# Altium schematic symbol library Transistor GOST.SchLib: 15 symbols
Pins are listed as number, name and electrical type; pins without a type are passive.

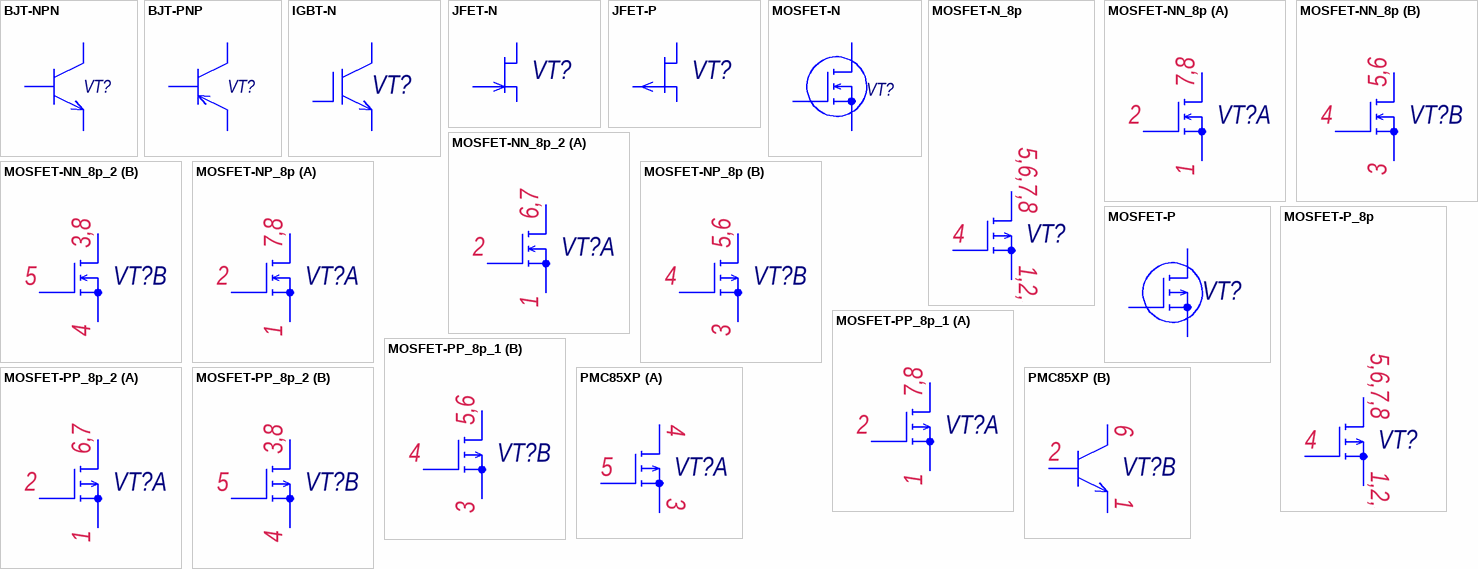
[diagram p0: symbols BJT-NPN to PMC85XP]

## BJT-NPN
designator VT?
Type: Транзистор; Published: 07.05.2013; Publisher: Andrew Danich
pins: 1 Б "База", 2 К "Коллектор", 3 Э "Эмиттер"

## BJT-PNP
designator VT?
Type: Транзистор; Published: 07.05.2013; Publisher: Andrew Danich
pins: 1 Б "База", 2 К "Коллектор", 3 Э "Эмиттер"

## IGBT-N
designator VT?
Type: Транзистор; Published: 27.07.2015; Publisher: Andrew Danich
pins: 1 G "Затвор", 2 C "Сток", 3 E "Исток"

## JFET-N
designator VT?
Type: Транзистор; Published: 24.09.2010; Publisher: Andrew Danich
pins: 1 З "Затвор", 2 С "Сток", 3 И "Исток"

## JFET-P
designator VT?
Type: Транзистор; Published: 10.02.2014; Publisher: Andrew Danich
pins: 1 З "Затвор", 2 С "Сток", 3 И "Исток"

## MOSFET-N
designator VT?
Type: Транзистор
pins: 1 G "Затвор", 2 D "Сток", 3 S "Исток"

## MOSFET-N_8p
designator VT?
Type: Сборка транзисторная; Published: 24.11.2016; Publisher: Andrew Danich
pins: 1 S "Исток", 2 G "Затвор", 3 D "Сток"
text: 5,6,7,8; 4; 1,2,3

## MOSFET-NN_8p
designator VT?
Type: Сборка транзисторная; Published: 17.07.2014; Publisher: Andrew Danich
part A pins: 1 S1 "Исток", 2 G1 "Затвор", 6 D1 "Сток"
part B pins: 3 S2 "Исток", 4 G2 "Затвор", 5 D2 "Сток"
part A text: 7,8
part B text: 5,6

## MOSFET-NN_8p_2
designator VT?
Type: Сборка транзисторная; Published: 27.07.2015; Publisher: Andrew Danich
part A pins: 1 S1 "Исток", 2 G1 "Затвор", 6 D1 "Сток"
part B pins: 3 D2 "Сток", 4 S2 "Исток", 5 G2 "Затвор"
part A text: 6,7
part B text: 3,8

## MOSFET-NP_8p
designator VT?
Type: Сборка транзисторная; Published: 17.07.2014; Publisher: Andrew Danich
part A pins: 1 S1 "Исток", 2 G1 "Затвор", 6 D1 "Сток"
part B pins: 3 S2 "Исток", 4 G2 "Затвор", 5 D2 "Сток"
part A text: 7,8
part B text: 5,6

## MOSFET-P
designator VT?
Type: Транзистор
pins: 1 G "Затвор", 2 D "Сток", 3 S "Исток"

## MOSFET-P_8p
designator VT?
Type: Сборка транзисторная; Published: 18.07.2014; Publisher: Andrew Danich
pins: 1 S "Исток", 2 G "Затвор", 3 D "Сток"
text: 5,6,7,8; 4; 1,2,3

## MOSFET-PP_8p_1
designator VT?
Type: Сборка транзисторная; Published: 18.07.2014; Publisher: Andrew Danich
part A pins: 1 S1 "Исток", 2 G1 "Затвор", 6 D1 "Сток"
part B pins: 3 S2 "Исток", 4 G2 "Затвор", 5 D2 "Сток"
part A text: 7,8
part B text: 5,6

## MOSFET-PP_8p_2
designator VT?
Type: Сборка транзисторная; Published: 18.07.2014; Publisher: Andrew Danich
part A pins: 1 S1 "Исток", 2 G1 "Затвор", 6 D1 "Сток"
part B pins: 3 D2 "Сток", 4 S2 "Исток", 5 G2 "Затвор"
part A text: 6,7
part B text: 3,8

## PMC85XP
designator VT?
Type: Сборка транзисторная; Published: 13.03.2017; Publisher: Andrew Danich
part A pins: 3 S "Исток", 4 D "Сток", 5 G "Затвор"
part B pins: 1 Э "Эмиттер", 2 Б "База", 6 К "Коллектор"